# Altium footprint library YS_STM32F407_MC.PcbLib: 52 footprints (part 4 of 4)
Each footprint in its own frame and in the unit in brackets; x right, y up, seen from the top. Pads: shape width x height; smd on the part's side, far side on the other; paste and mask are expansions set on the pad; w line width, h text height; cw(c..) or ccw(c..) is an arc to the next point about the centre after c.
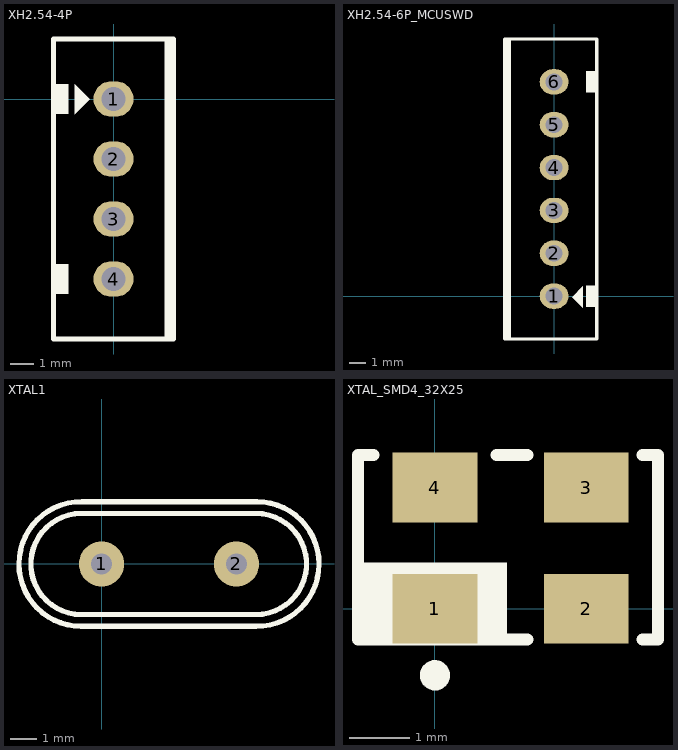
[diagram p3: the footprints below, top view; thin cyan lines are the x and y axes]

## XH2.54-4P [mm]
pads (4):
  oval 1.7x1.5 hole 1: 1(0,0) 2(0,-2.54) 3(0,-5.08) 4(0,-7.62)
Top Overlay:
  region: 2.159,2.54 2.159,-10.16 2.54,-10.16 2.54,2.54
  region: -2.54,-6.985 -2.54,-8.255 -1.905,-8.255 -1.905,-6.985
  region: -2.54,0.635 -2.54,-0.635 -1.905,-0.635 -1.905,0.635
  region: -1.016,0 -1.651,0.635 -1.651,-0.635
  lines w0.2: -2.54,-10.16 -2.54,2.54 ; 2.54,-10.16 2.54,2.54
  lines w0.203: -2.54,-10.16 2.54,-10.16 ; -2.54,2.54 2.54,2.54

## XH2.54-6P_MCUSWD [mm]
pads (6):
  oval 1.7x1.5 hole 1: 1(0,0) 2(0,2.54) 3(0,5.08) 4(0,7.62) 5(0,10.16) 6(0,12.7)
Top Overlay:
  region: 1.905,13.335 1.905,12.065 2.54,12.065 2.54,13.335
  region: 1.905,0.635 1.905,-0.635 2.54,-0.635 2.54,0.635
  region: -2.921,15.24 -2.921,-2.54 -2.54,-2.54 -2.54,15.24
  region: 1.079,-0.064 1.714,0.572 1.714,-0.699
  lines w0.2: -2.921,15.24 -2.921,-2.54 2.54,-2.54 2.54,15.24
  lines w0.203: -2.921,15.24 2.54,15.24

## XTAL1 [mm]
pads (2):
  round 1.7 hole 0.8: 1(0,0) 2(5.08,0)
Top Overlay:
  lines w0.2: -0.762,-2.35 cw(c-0.762,0) -0.737,2.35 5.842,2.35 cw(c5.842,0) 5.818,-2.35 -0.762,-2.35 ; -0.762,-1.905 cw(c-0.762,0) -0.762,1.905 5.817,1.905 cw(c5.817,0) 5.817,-1.905 -0.762,-1.905

## XTAL_SMD4_32X25 [mm]
pads (4):
  rect 1.4x1.15 smd: 1(0,0) 2(2.5,0) 3(2.5,2) 4(0,2)
Top Overlay:
  circle w0.25: c0,-1.1 r0.125
  rectangle: -1.245,-0.61 1.194,0.762
  lines w0.2: -1.016,-0.508 -1.27,-0.508 -1.27,2.54 -1.016,2.54 ; 1.016,-0.508 1.524,-0.508 ; 1.016,2.54 1.524,2.54 ; 3.429,-0.508 3.683,-0.508 3.683,2.54 3.429,2.54